# Altium footprint library PCB1.PcbLib: 24 footprints (part 1 of 2)
Each footprint in its own frame and in the unit in brackets; x right, y up, seen from the top. Pads: shape width x height; smd on the part's side, far side on the other; paste and mask are expansions set on the pad; w line width, h text height; cw(c..) or ccw(c..) is an arc to the next point about the centre after c.
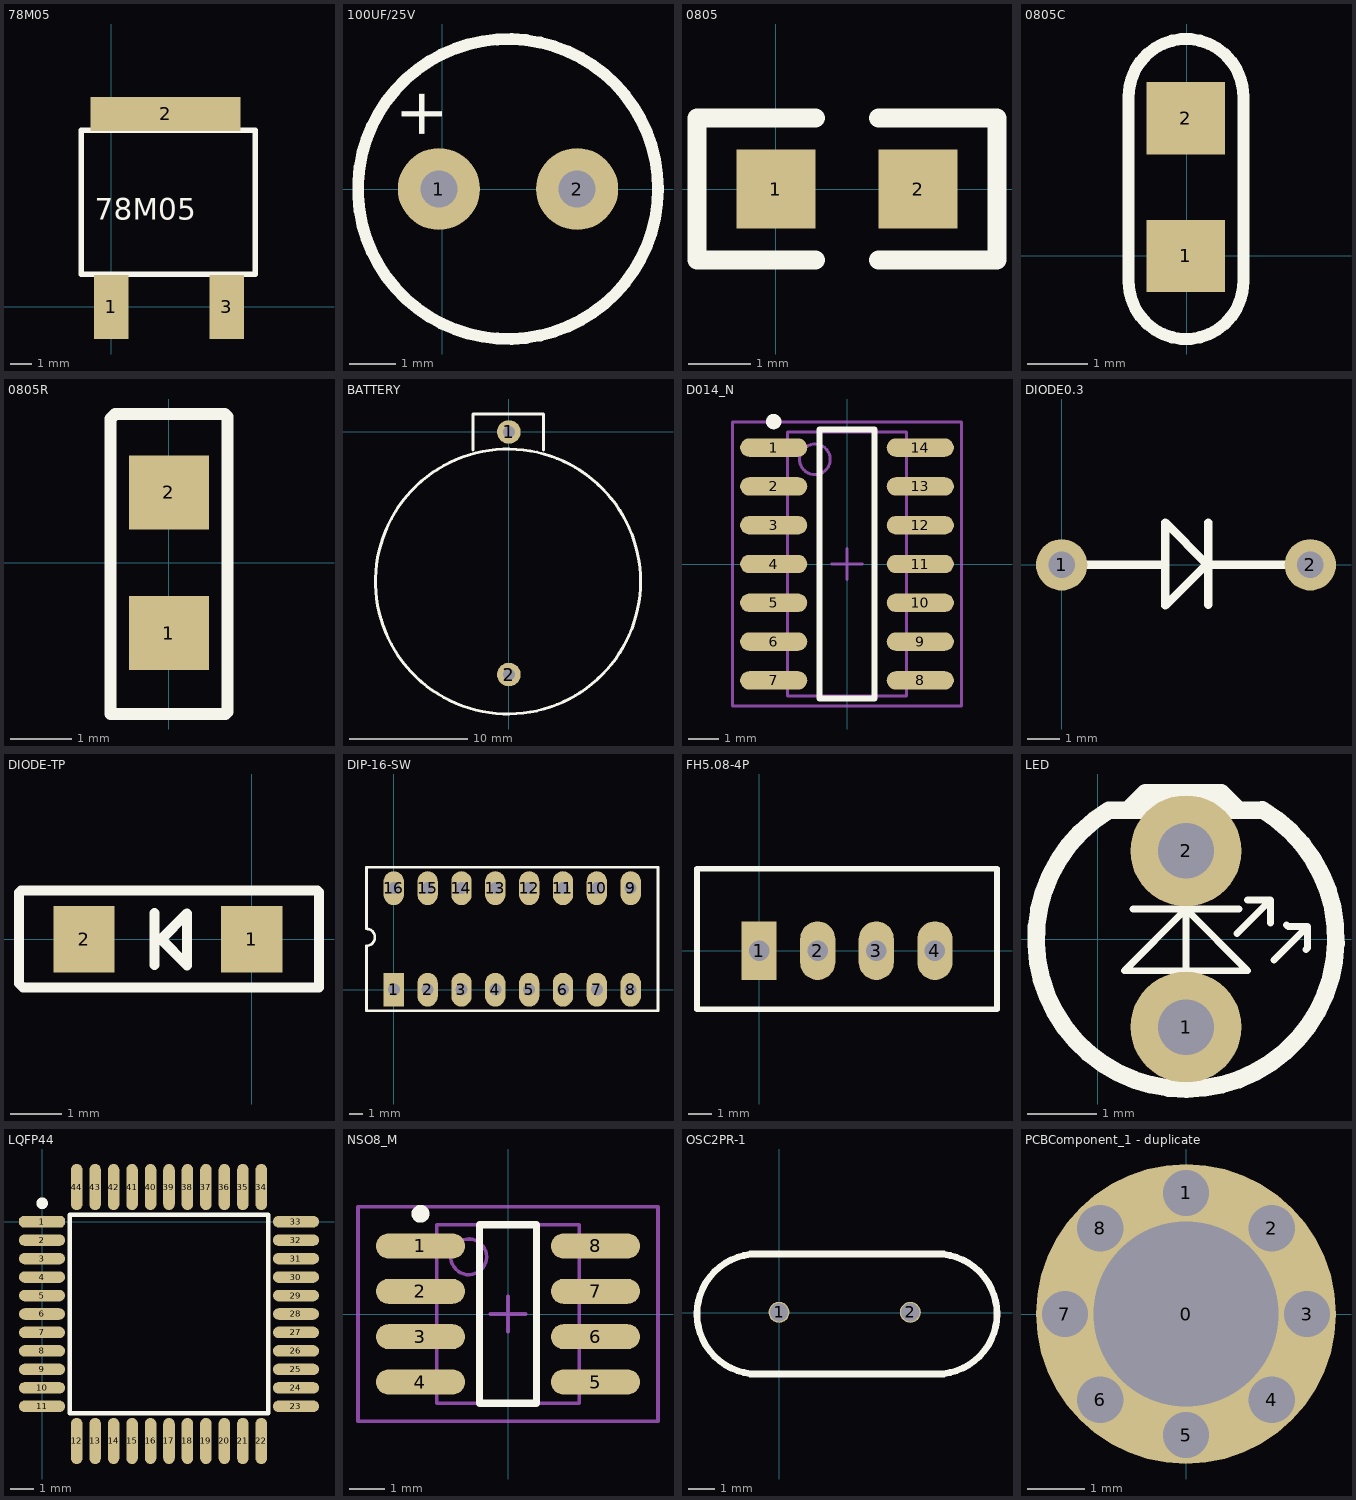
[diagram p0: the footprints below, top view; thin cyan lines are the x and y axes]

## 78M05 [mm]
pads (3):
  rect 1.6x3 smd: 1(0,0) 3(5.4,0)
  rect 7x1.6 smd: 2(2.54,9.017)
Top Overlay:
  lines w0.254: -1.397,1.524 -1.397,8.255 6.731,8.255 6.731,1.524 -1.397,1.524
  text "78M05" at -0.762,4.064 h1

## 100UF/25V [mil]
pads (2):
  round 70 hole 31.5: 1(-3,0) 2(115,0)
Top Overlay:
  circle w10: c56,0 r128
  text "+" at -34.5,86.61 h40

## 0805 [mil]
pads (2):
  rect 50x50 smd: 1(0,0) 2(90,0)
Top Overlay:
  lines w12: 25,-45 -50,-45 -50,45 25,45 ; 65,-45 140,-45 140,45 65,45

## 0805C [mm]
height 1.1
pads (2):
  rect 1.3x1.2 smd: 1(-0.019,-0.004) 2(-0.019,2.282)
Top Overlay:
  lines w0.2: -0.966,-0.431 ccw(c-0.016,-0.431) 0.934,-0.431 0.934,2.644 ccw(c-0.016,2.644) -0.966,2.644 -0.966,-0.431

## 0805R [mm]
height 5.08
pads (2):
  rect 1.3x1.2 smd: 1(0,-1.143) 2(0,1.143)
Top Overlay:
  lines w0.2: 0.92,-2.459 -0.947,-2.459 -0.947,-1.571 -0.947,1.504 -0.947,2.339 -0.87,2.417 0.908,2.417 0.953,2.372 0.953,1.147 ; 0.953,-2.427 0.953,-1.571 0.953,1.504

## BATTERY [mm]
pads (2):
  round 2 hole 1: 1(0,0) 2(0,-20.6)
Top Overlay:
  circle w0.254: c-0.074,-12.7 r11.25
  lines w0.254: -3.037,-1.524 -3.037,1.524 2.932,1.524 2.932,-1.524

## D014_N [mm] "SOIC, 14-Leads, Body 8.7x3.9mm, Pitch 1.27mm, IPC Medium Density"
height 1.75
pads (14):
  oval 2.2x0.6 smd: 1(-2.4,3.81) 2(-2.4,2.54) 3(-2.4,1.27) 4(-2.4,0) 5(-2.4,-1.27) 6(-2.4,-2.54) 7(-2.4,-3.81) 8(2.4,-3.81) 9(2.4,-2.54) 10(2.4,-1.27) 11(2.4,0) 12(2.4,1.27) 13(2.4,2.54) 14(2.4,3.81)
Top Overlay:
  circle w0.25: c-2.4,4.66 r0.125
  lines w0.2: -0.9,-4.4 0.9,-4.4 0.9,4.4 -0.9,4.4 -0.9,-4.4
Mechanical 13:
  circle w0.1: c-1.05,3.425 r0.5
  lines w0.1: -1.95,-4.325 1.95,-4.325 1.95,4.325 -1.95,4.325 -1.95,-4.325
Mechanical 15:
  lines w0.1: -0.5,0 0.5,0 ; 0,-0.5 0,0.5 ; -3.75,-4.65 3.75,-4.65 3.75,4.65 -3.75,4.65 -3.75,-4.65
3D body: height 1.75, standoff 0, extent -1.95,-4.325 1.95,4.325

## DIODE0.3 [mil]
pads (2):
  round 62 hole 32: 1(0,0) 2(300,0)
Top Overlay:
  lines w10: 0,0 124,0 ; 177,-48 177,51 ; 177,0 300,0 ; 125,-49 174,0 176,0 125,51 125,-49

## DIODE-TP [mm]
height 1.5
pads (2):
  rect 1.2x1.3 smd: 1(0,0) 2(-3.286,0)
Top Overlay:
  lines w0.2: -2.647,0.953 0.428,0.953 1.284,0.953 ; -2.29,0.953 -3.515,0.953 -4.515,0.953 -4.56,0.908 -4.56,-0.87 -4.483,-0.947 -3.482,-0.947 -2.647,-0.947 0.428,-0.947 1.316,-0.947 1.316,0.92 ; -1.905,-0.508 -1.905,-0.254 -1.905,0.254 -1.905,0.508 ; -1.776,-0.004 -1.268,0.504 -1.268,-0.512 -1.776,-0.004

## DIP-16-SW [mm]
pads (16):
  rect 1.524x2.54 hole 0.9: 1(0,0)
  oval 1.524x2.54 hole 0.9: 2(2.54,0) 3(5.08,0) 4(7.62,0) 5(10.16,0) 6(12.7,0) 7(15.24,0) 8(17.78,0) 9(17.78,7.62) 10(15.24,7.62) 11(12.7,7.62) 12(10.16,7.62) 13(7.62,7.62) 14(5.08,7.62) 15(2.54,7.62) 16(0,7.62)
Top Overlay:
  lines w0.2: -2.05,4.57 cw(c-2.05,3.935) -2.05,3.3 -2.05,-1.59 19.83,-1.59 19.83,9.2 -2.05,9.2 -2.05,4.6

## FH5.08-4P [mil]
pads (4):
  rect 60x100 hole 35: 1(0,0)
  oval 60x100 hole 35: 2(100,0) 3(200,0) 4(300,0)
Top Overlay:
  lines w10: -106,-100 406,-100 406,136.22 ; -106,-96.22 -106,140 406,140

## LED [mm]
height 5.08
pads (2):
  round 1.6 hole 0.8: 1(1.27,-1.27) 2(1.27,1.27)
Top Overlay:
  lines w0.1: 0.508,0.432 2.032,0.432 ; 1.27,-1.346 1.27,1.194 ; 2.007,0.076 2.489,0.559 ; 2.159,0.559 2.489,0.559 ; 2.489,0.232 2.489,0.559 ; 2.54,-0.305 3.023,0.178 ; 2.718,0.203 2.743,0.178 3.023,0.178 ; 2.997,-0.152 3.023,-0.127 3.023,0.178 ; 0.381,-0.457 2.159,-0.457 1.27,0.432 0.381,-0.457
  lines w0.254: 0.432,1.853 0.686,2.107 0.686,2.108 1.599,2.108 ; 0.737,1.853 0.737,1.905 0.94,2.108 ; 1.854,1.853 1.599,2.108 ; 1.981,1.853 1.981,1.905 1.778,2.108 1.599,2.108 ; 0.158,1.853 ccw(c1.27,0) 2.37,1.86 2.363,1.853 0.158,1.853

## LQFP44 [mm]
pads (44):
  oct 2x0.5 smd: 1(0,0)
  oval 2x0.5 smd: 2(0,-0.8) 3(0,-1.6) 4(0,-2.4) 5(0,-3.2) 6(0,-4) 7(0,-4.8) 8(0,-5.6) 9(0,-6.4) 10(0,-7.2) 11(0,-8) 23(11,-8) 24(11,-7.2) 25(11,-6.4) 26(11,-5.6) 27(11,-4.8) 28(11,-4) 29(11,-3.2) 30(11,-2.4) 31(11,-1.6) 32(11,-0.8) 33(11,0)
  oval 0.5x2 smd: 12(1.5,-9.5) 13(2.3,-9.5) 14(3.1,-9.5) 15(3.9,-9.5) 16(4.7,-9.5) 17(5.5,-9.5) 18(6.3,-9.5) 19(7.1,-9.5) 20(7.9,-9.5) 21(8.7,-9.5) 22(9.5,-9.5) 34(9.5,1.5) 35(8.7,1.5) 36(7.9,1.5) 37(7.1,1.5) 38(6.3,1.5) 39(5.5,1.5) 40(4.7,1.5) 41(3.9,1.5) 42(3.1,1.5) 43(2.3,1.5) 44(1.5,1.5)
Top Overlay:
  circle w0.25: c0,0.8 r0.125
  lines w0.2: 1.2,-8.3 1.2,0.3 9.8,0.3 9.8,-8.3 1.2,-8.3

## NSO8_M [mm] "SOIC, 8-Leads, Body 4.9x3.9mm, Pitch 1.27mm, IPC Low Density"
height 1.75
pads (8):
  oval 2.5x0.7 smd: 1(-2.45,1.905) 2(-2.45,0.635) 3(-2.45,-0.635) 4(-2.45,-1.905) 5(2.45,-1.905) 6(2.45,-0.635) 7(2.45,0.635) 8(2.45,1.905)
Top Overlay:
  circle w0.25: c-2.45,2.805 r0.125
  lines w0.2: -0.8,-2.5 -0.8,2.5 0.8,2.5 0.8,-2.5 -0.8,-2.5
Mechanical 13:
  circle w0.1: c-1.1,1.6 r0.5
  lines w0.1: -2,-2.5 -2,2.5 2,2.5 2,-2.5 -2,-2.5
Mechanical 15:
  lines w0.1: -0.5,0 0.5,0 ; 0,-0.5 0,0.5 ; -4.2,-3 -4.2,3 4.2,3 4.2,-3 -4.2,-3
3D body: height 1.75, standoff 0, extent -2,-2.5 2,2.5

## OSC2PR-1 [mm]
pads (2):
  round 0.8 / inner round 0.8 / far side round 1.8 hole 0.7: 1(-0.003,0.008) 2(5.001,0.008)
Top Overlay:
  lines w0.254: -1.095,-2.341 6.271,-2.341 ; -1.095,2.231 6.271,2.231 ; -0.841,-2.341 cw(c-0.841,-0.055) -0.841,2.231 ; 6.017,-2.341 ccw(c6.017,-0.055) 6.017,2.231

## PCBComponent_1 - duplicate [mm]
pads (9):
  round 5.2 hole 3.2 unplated: 0(0,0)
  round 0.8 hole 0.8: 1(0,2.1) 2(1.485,1.485) 3(2.1,0) 4(1.485,-1.485) 5(0,-2.1) 6(-1.485,-1.485) 7(-2.1,0) 8(-1.485,1.485)